# Altium schematic symbol library PCM1808.SchLib: 1 symbol
Pins are listed as number, name and electrical type; pins without a type are passive.

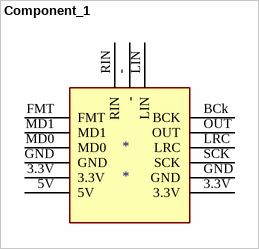
[diagram p0: symbol Component_1]

## Component_1
designator *
footprint PCBComponent_1
pins: 3.3V, 3.3V, 5V, -, BCk BCK, FMT, GND, GND, LIN, LRC, MD0, MD1, OUT, RIN, SCK